# Altium schematic symbol library 74HC14BQ-Q100_115.SchLib: 1 symbol
Pins are listed as number, name and electrical type; pins without a type are passive.

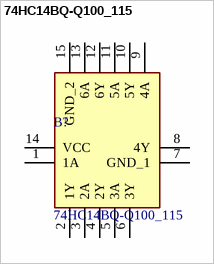
[diagram p0: symbol 74HC14BQ-Q100_115]

## 74HC14BQ-Q100_115
designator B?
74HC(T)14-Q100 - Hex inverting Schmitt trigger@en-us; Manufacturer_Name: Nexperia; Manufacturer_Part_Number: 74HC14BQ-Q100,115; Geometry.Height: 1mm; Mouser Part Number: 771-74HC14BQ-Q100115; Mouser Price/Stock: https://www.mouser.co.uk/ProductDetail/Nexperia/74HC14BQ-Q100115?qs=1sbE9T7hb3by%252BzLgwKmEqA%3D%3D; Datasheet Link: https://assets.nexperia.com/documents/data-sheet/74HC_HCT14_Q100.pdf
footprint 74HC14BQQ100115
pins: 1 1A, 2 1Y, 3 2A, 4 2Y, 5 3A, 6 3Y, 7 GND_1, 8 4Y, 9 4A, 10 5Y, 11 5A, 12 6Y, 13 6A, 14 VCC, 15 GND_2